# EAGLE library part TAS5152 (library Audio-Power-amlifier V.2.0)
A low-cost, high-fidelity audio system can be built using a TI chipset, comprised of a modulator (e.g., TAS5508) and the TAS5152.
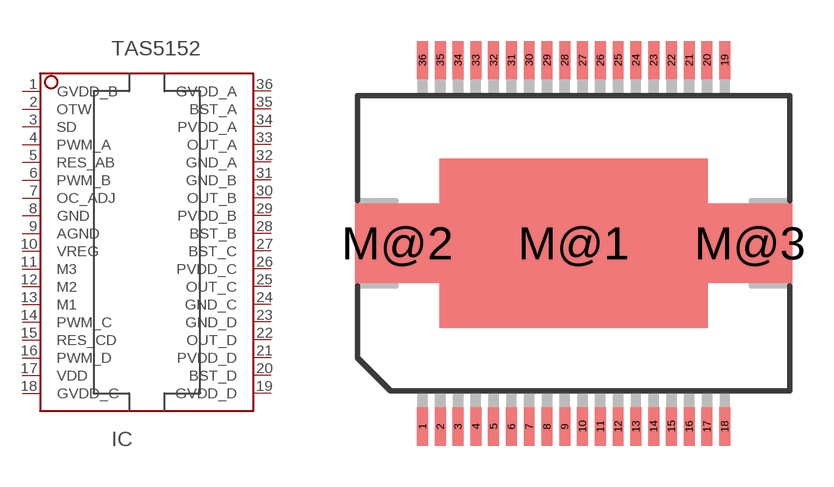
[diagram p122: symbol with the pads of PSOP36_DKD; footprint PSOP36_DKD]

Designator prefix IC

## TAS5152  [PSOP36_DKD]
1  GVDD_B
2  OTW  out
3  SD  out
4  PWM_A  in
5  RES_AB  in
6  PWM_B  in
7  OC_ADJ  out
8  GND  pwr
9  AGND  pwr
10  VREG  pwr
11  M3  in
12  M2  in
13  M1  in
14  PWM_C  in
15  RES_CD  in
16  PWM_D  in
17  VDD  pwr
18  GVDD_C  pwr
19  GVDD_D  pwr
20  BST_D  pwr
21  PVDD_D  pwr
22  OUT_D  out
23  GND_D  pwr
24  GND_C  pwr
25  OUT_C  out
26  PVDD_C  pwr
27  BST_C  pwr
28  BST_B  pwr
29  PVDD_B  pwr
30  OUT_B  out
31  GND_B  pwr
32  GND_A  pwr
33  OUT_A  out
34  PVDD_A  pwr
35  BST_A  pwr
36  GVDD_A  pwr

## Footprint PSOP36_DKD (pad centres in mm)
36-Lead Power Small Ou t l i ne Package ( P S O P ) , s i m i l a r t o JEDEC out l i ne MO- 1 6 6 , var i a t i on AE:f
smd 0.4 x 1.4: 1 -5.525,-6.7; 2 -4.875,-6.7; 3 -4.225,-6.7; 4 -3.575,-6.7; 5 -2.925,-6.7; 6 -2.275,-6.7; 7 -1.625,-6.7; 8 -0.975,-6.7; 9 -0.325,-6.7; 10 0.325,-6.7; 11 0.975,-6.7; 12 1.625,-6.7; 13 2.275,-6.7; 14 2.925,-6.7; 15 3.575,-6.7; 16 4.225,-6.7; 17 4.875,-6.7; 18 5.525,-6.7; 19 5.525,6.7; 20 4.875,6.7; 21 4.225,6.7; 22 3.575,6.7; 23 2.925,6.7; 24 2.275,6.7; 25 1.625,6.7; 26 0.975,6.7; 27 0.325,6.7; 28 -0.325,6.7; 29 -0.975,6.7; 30 -1.625,6.7; 31 -2.275,6.7; 32 -2.925,6.7; 33 -3.575,6.7; 34 -4.225,6.7; 35 -4.875,6.7; 36 -5.525,6.7
smd 9.8 x 6.2: M@1 0,0
smd 3.1 x 2.9: M@2 -6.45,0; M@3 6.45,0